# EAGLE library part SX1302 (library IC_Wireless-RF)
SX1302 - LoRa Gateway Baseband Processor Datasheet <https://semtech.my.salesforce.com/sfc/p/#E0000000JelG/a/2R000000Hkyg/U8CIV3e9yI9T_aILFMxuzLNs_6_0Io1WIaksrNYyCMQ> Product Page <https://www.semtech.com/products/wireless-rf/lora-core/sx1302>
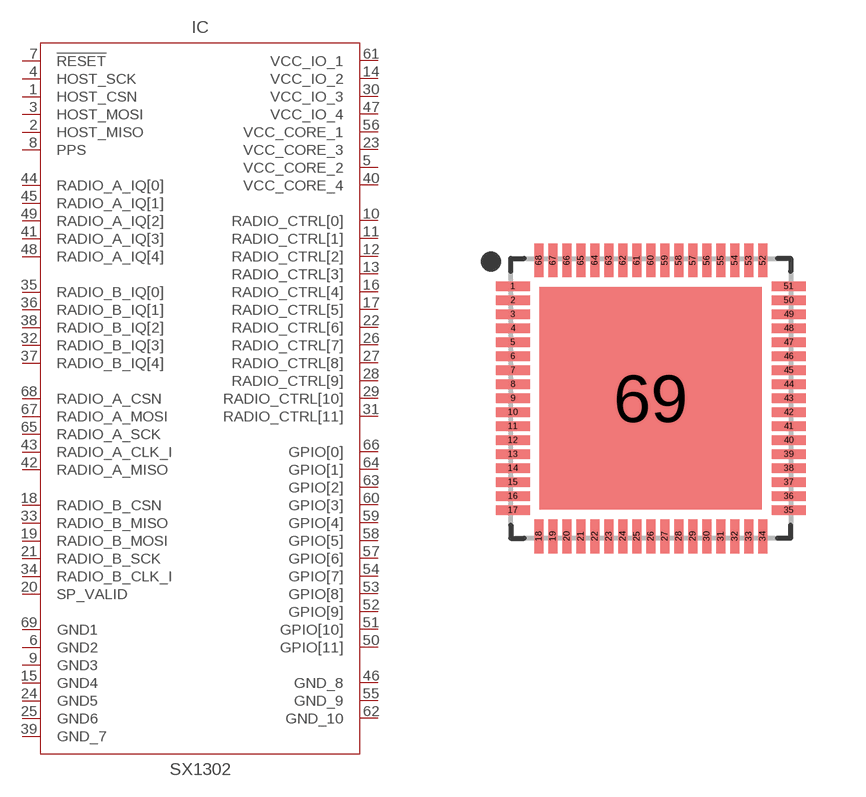
[diagram p8: symbol with the pads of QFN34P700X700X80-69T556; footprint QFN34P700X700X80-69T556]

Designator prefix IC

## SX1302 (CATEGORY: IC_Wireless-RF; DESCRIPTION: LORA GATEWAY BASEBAND TRANSCEIVER; FREQUENCY: 32MHz; MANUFACTURER: Semtech; MPN: SX1302IMLTRT; OPERATING_TEMP: -40°C to 85°C; PART_STATUS: Active; SERIES: SX1302; SUB-CATEGORY: Transceiver; TYPE: LoRa Core™; VALUE: SX1302)  [QFN34P700X700X80-69T556]
1  HOST_CSN  in
2  HOST_MISO  out
3  HOST_MOSI  in
4  HOST_SCK  in
5  VCC_CORE_2  pwr
6  GND2  pwr
7  !RESET!  in
8  PPS  in
9  GND3  pwr
10  RADIO_CTRL[0]  out
11  RADIO_CTRL[1]  out
12  RADIO_CTRL[2]  out
13  RADIO_CTRL[3]  out
14  VCC_IO_2  pwr
15  GND4  pwr
16  RADIO_CTRL[4]  out
17  RADIO_CTRL[5]  out
18  RADIO_B_CSN  out
19  RADIO_B_MOSI  out
20  SP_VALID  in
21  RADIO_B_SCK  out
22  RADIO_CTRL[6]  out
23  VCC_CORE_3  pwr
24  GND5  pwr
25  GND6  pwr
26  RADIO_CTRL[7]  out
27  RADIO_CTRL[8]  out
28  RADIO_CTRL[9]  out
29  RADIO_CTRL[10]  out
30  VCC_IO_3  pwr
31  RADIO_CTRL[11]  out
32  RADIO_B_IQ[3]
33  RADIO_B_MISO  in
34  RADIO_B_CLK_I  in
35  RADIO_B_IQ[0]
36  RADIO_B_IQ[1]
37  RADIO_B_IQ[4]
38  RADIO_B_IQ[2]
39  GND_7  pas
40  VCC_CORE_4  pwr
41  RADIO_A_IQ[3]
42  RADIO_A_MISO  in
43  RADIO_A_CLK_I  in
44  RADIO_A_IQ[0]
45  RADIO_A_IQ[1]
46  GND_8  pas
47  VCC_IO_4  pwr
48  RADIO_A_IQ[4]
49  RADIO_A_IQ[2]
50  GPIO[11]
51  GPIO[10]
52  GPIO[9]
53  GPIO[8]
54  GPIO[7]
55  GND_9  pas
56  VCC_CORE_1  pwr
57  GPIO[6]
58  GPIO[5]
59  GPIO[4]
60  GPIO[3]
61  VCC_IO_1  pwr
62  GND_10  pas
63  GPIO[2]
64  GPIO[1]
65  RADIO_A_SCK  out
66  GPIO[0]  in
67  RADIO_A_MOSI  out
68  RADIO_A_CSN  out
69  GND1  pwr

## Footprint QFN34P700X700X80-69T556 (pad centres in mm)
68-QFN, 0.35 mm pitch, 7.00 X 7.00 X 0.80 mm body, 5.56 X 5.56 mm thermal pad 68-pin QFN package with 0.35 mm pitch with body size 7.00 X 7.00 X 0.80 mm and thermal pad size 5.56 X 5.56 mm
smd 0.85 x 0.23: 1 -3.45,2.8; 2 -3.45,2.45; 3 -3.45,2.1; 4 -3.45,1.75; 5 -3.45,1.4; 6 -3.45,1.05; 7 -3.45,0.7; 8 -3.45,0.35; 9 -3.45,0; 10 -3.45,-0.35; 11 -3.45,-0.7; 12 -3.45,-1.05; 13 -3.45,-1.4; 14 -3.45,-1.75; 15 -3.45,-2.1; 16 -3.45,-2.45; 17 -3.45,-2.8; 35 3.45,-2.8; 36 3.45,-2.45; 37 3.45,-2.1; 38 3.45,-1.75; 39 3.45,-1.4; 40 3.45,-1.05; 41 3.45,-0.7; 42 3.45,-0.35; 43 3.45,0; 44 3.45,0.35; 45 3.45,0.7; 46 3.45,1.05; 47 3.45,1.4; 48 3.45,1.75; 49 3.45,2.1; 50 3.45,2.45; 51 3.45,2.8
smd 0.23 x 0.85: 18 -2.8,-3.45; 19 -2.45,-3.45; 20 -2.1,-3.45; 21 -1.75,-3.45; 22 -1.4,-3.45; 23 -1.05,-3.45; 24 -0.7,-3.45; 25 -0.35,-3.45; 26 0,-3.45; 27 0.35,-3.45; 28 0.7,-3.45; 29 1.05,-3.45; 30 1.4,-3.45; 31 1.75,-3.45; 32 2.1,-3.45; 33 2.45,-3.45; 34 2.8,-3.45; 52 2.8,3.45; 53 2.45,3.45; 54 2.1,3.45; 55 1.75,3.45; 56 1.4,3.45; 57 1.05,3.45; 58 0.7,3.45; 59 0.35,3.45; 60 0,3.45; 61 -0.35,3.45; 62 -0.7,3.45; 63 -1.05,3.45; 64 -1.4,3.45; 65 -1.75,3.45; 66 -2.1,3.45; 67 -2.45,3.45; 68 -2.8,3.45
smd 5.56 x 5.56: 69 0,0